# EAGLE library part J_USB_MICROAB_HIROSE_ZX62-AB-5PA (library J_USB_HIROSE_ZX62-AB-5PA)
USB Micro-AB SMT connector Hirose Electric Co Ltd: ZX62-AB-5P
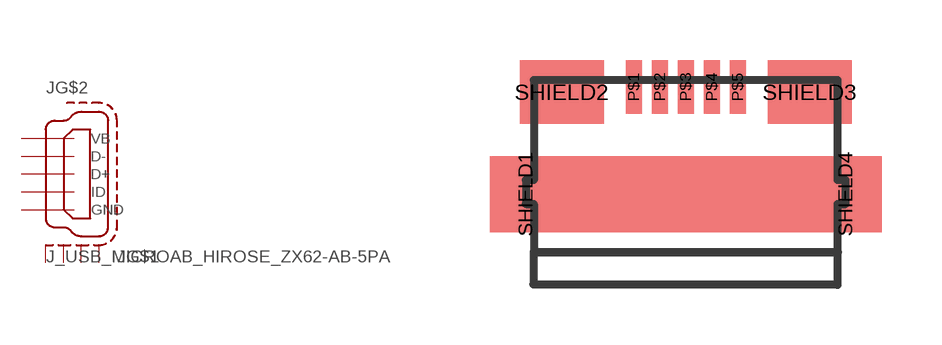
[diagram p0: symbol with the pads of J_USB_MICROAB_HIROSE_ZX62-AB-5PA; footprint J_USB_MICROAB_HIROSE_ZX62-AB-5PA]

Designator prefix J; gates G$1=SHIELD_4 G$2=J_USB_MICROAB_HIROSE_ZX62-AB-5PA

## J_USB_MICROAB_HIROSE_ZX62-AB-5PA  [J_USB_MICROAB_HIROSE_ZX62-AB-5PA]
P$1  G$2:VB  pas
P$2  G$2:D-  pas
P$3  G$2:D+  pas
P$4  G$2:ID  pas
P$5  G$2:GND  pas
SHIELD1  G$1:S1  pas
SHIELD2  G$1:S2  pas
SHIELD3  G$1:S3  pas
SHIELD4  G$1:S4  pas

## Footprint J_USB_MICROAB_HIROSE_ZX62-AB-5PA (pad centres in mm)
USB Micro-B SMT receptor Hirose Electric Co Ltd: ZX62-B-5P
smd 0.4 x 1.35: P$1 -1.3,4.125; P$2 -0.65,4.125; P$3 0,4.125; P$4 0.65,4.125; P$5 1.3,4.125
smd 1.8 x 1.9: SHIELD1 -4,1.45; SHIELD4 4,1.45
smd 2.1 x 1.6: SHIELD2 -3.1,4; SHIELD3 3.1,4